# Altium schematic symbol library cdsod323_t12lc.SchLib: 1 symbol
Pins are listed as number, name and electrical type; pins without a type are passive.

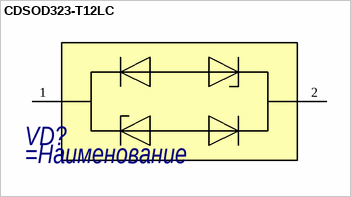
[diagram p0: symbol CDSOD323-T12LC]

## CDSOD323-T12LC
designator VD?
=Описание
pins: 1, 2